# Altium integrated library TI Logic Buffer Line Driver.IntLib: 1037 symbols (part 12 of 25)
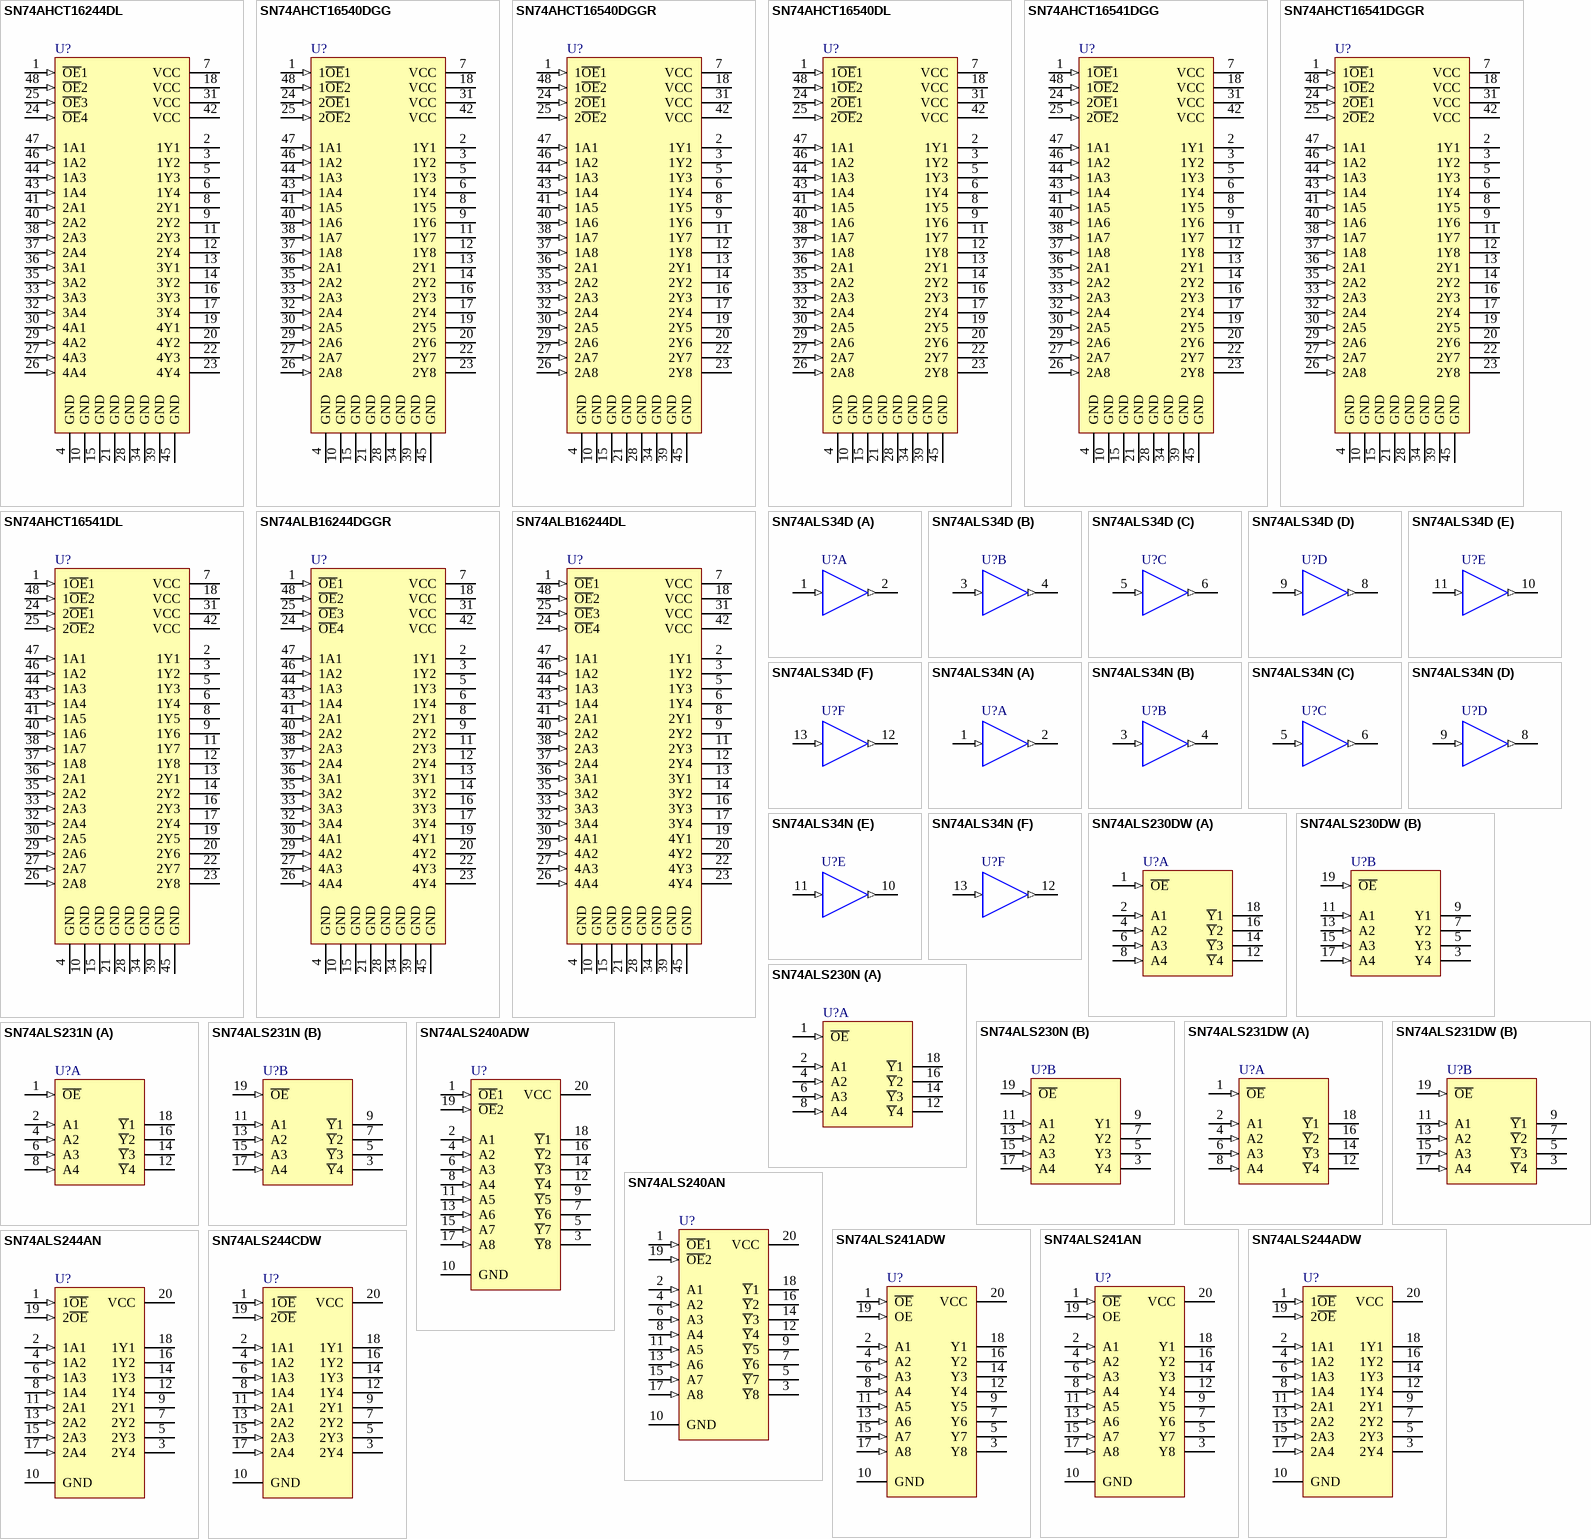
[diagram p56: symbols SN74AHCT16244DL to SN74ALS244CDW]

## SN74AHCT16541DGG
designator U?
16-Bit Buffer/Driver with 3-State Outputs; Published: 8-Jun-2000; LatestRevisionDate: 16-Oct-2006; LatestRevisionNote: IPC-7351 Footprint Added.; DatasheetVersion: Oct-1998; PackageVersion: Jan-1998; PackageReference: DGG048; Publisher: Altium Limited; PackageDescription: 48-Pin Thin Shrink Small Outline Package 0.5 mm Pitch; ComponentLink1Description: Manufacturer Link; ComponentLink1URL: http://www.ti.com/; ComponentLink2Description: Datasheet; ComponentLink2URL: http://www-s.ti.com/sc/ds/sn74ahct16541.pdf
footprint DGG048_N (TSSOP, 48-Leads, Body 12.5x6.1mm, Pitch 0.5mm, IPC Medium Density)
footprint DGG048_L (TSSOP, 48-Leads, Body 12.5x6.1mm, Pitch 0.5mm, IPC High Density)
footprint DGG048_M (TSSOP, 48-Leads, Body 12.5x6.1mm, Pitch 0.5mm, IPC Low Density)
3D model DGG048 (48-Pin Thin Shrink Small Outline Package 0.5 mm Pitch)
signal-integrity model SN74AHCT16541DGG
pins: 1 1~{OE}1 (in), 2 1Y1 (hiz), 3 1Y2 (hiz), 4 GND (power), 5 1Y3 (hiz), 6 1Y4 (hiz), 7 VCC (power), 8 1Y5 (hiz), 9 1Y6 (hiz), 10 GND (power), 11 1Y7 (hiz), 12 1Y8 (hiz), 13 2Y1 (hiz), 14 2Y2 (hiz), 15 GND (power), 16 2Y3 (hiz), 17 2Y4 (hiz), 18 VCC (power), 19 2Y5 (hiz), 20 2Y6 (hiz), 21 GND (power), 22 2Y7 (hiz), 23 2Y8 (hiz), 24 2~{OE}1 (in), 25 2~{OE}2 (in), 26 2A8 (in), 27 2A7 (in), 28 GND (power), 29 2A6 (in), 30 2A5 (in), 31 VCC (power), 32 2A4 (in), 33 2A3 (in), 34 GND (power), 35 2A2 (in), 36 2A1 (in), 37 1A8 (in), 38 1A7 (in), 39 GND (power), 40 1A6 (in), 41 1A5 (in), 42 VCC (power), 43 1A4 (in), 44 1A3 (in), 45 GND (power), 46 1A2 (in), 47 1A1 (in), 48 1~{OE}2 (in)

## SN74AHCT16541DGGR
designator U?
16-Bit Buffer/Driver with 3-State Outputs; Published: 8-Jun-2000; LatestRevisionDate: 16-Oct-2006; LatestRevisionNote: IPC-7351 Footprint Added.; DatasheetVersion: Oct-1998; PackageVersion: Jan-1998; PackageReference: DGG048; Publisher: Altium Limited; PackageDescription: 48-Pin Thin Shrink Small Outline Package 0.5 mm Pitch; ComponentLink1Description: Manufacturer Link; ComponentLink1URL: http://www.ti.com/; ComponentLink2Description: Datasheet; ComponentLink2URL: http://www-s.ti.com/sc/ds/sn74ahct16541.pdf
footprint DGG048_N (TSSOP, 48-Leads, Body 12.5x6.1mm, Pitch 0.5mm, IPC Medium Density)
footprint DGG048_L (TSSOP, 48-Leads, Body 12.5x6.1mm, Pitch 0.5mm, IPC High Density)
footprint DGG048_M (TSSOP, 48-Leads, Body 12.5x6.1mm, Pitch 0.5mm, IPC Low Density)
3D model DGG048 (48-Pin Thin Shrink Small Outline Package 0.5 mm Pitch)
signal-integrity model SN74AHCT16541DGGR
pins: 1 1~{OE}1 (in), 2 1Y1 (hiz), 3 1Y2 (hiz), 4 GND (power), 5 1Y3 (hiz), 6 1Y4 (hiz), 7 VCC (power), 8 1Y5 (hiz), 9 1Y6 (hiz), 10 GND (power), 11 1Y7 (hiz), 12 1Y8 (hiz), 13 2Y1 (hiz), 14 2Y2 (hiz), 15 GND (power), 16 2Y3 (hiz), 17 2Y4 (hiz), 18 VCC (power), 19 2Y5 (hiz), 20 2Y6 (hiz), 21 GND (power), 22 2Y7 (hiz), 23 2Y8 (hiz), 24 2~{OE}1 (in), 25 2~{OE}2 (in), 26 2A8 (in), 27 2A7 (in), 28 GND (power), 29 2A6 (in), 30 2A5 (in), 31 VCC (power), 32 2A4 (in), 33 2A3 (in), 34 GND (power), 35 2A2 (in), 36 2A1 (in), 37 1A8 (in), 38 1A7 (in), 39 GND (power), 40 1A6 (in), 41 1A5 (in), 42 VCC (power), 43 1A4 (in), 44 1A3 (in), 45 GND (power), 46 1A2 (in), 47 1A1 (in), 48 1~{OE}2 (in)

## SN74AHCT16541DL
designator U?
16-Bit Buffer/Driver with 3-State Outputs; Published: 8-Jun-2000; LatestRevisionDate: 16-Oct-2006; LatestRevisionNote: IPC-7351 Footprint Added.; DatasheetVersion: Oct-1998; PackageVersion: Dec-2001; PackageReference: DL048; Publisher: Altium Limited; PackageDescription: 48-Pin Small Outline Package 0.635 mm Pitch; Code_JEDEC: MO-118-AA; Code_IPC: SOP635P1035-48; ComponentLink1Description: Manufacturer Link; ComponentLink1URL: http://www.ti.com/; ComponentLink2Description: Datasheet; ComponentLink2URL: http://www-s.ti.com/sc/ds/sn74ahct16541.pdf
footprint DL048_N (SOP, 48-Leads, Body 15.9x7.5mm, Pitch 0.635mm, IPC Medium Density)
footprint DL048_L (SOP, 48-Leads, Body 15.9x7.5mm, Pitch 0.635mm, IPC High Density)
footprint DL048_M (SOP, 48-Leads, Body 15.9x7.5mm, Pitch 0.635mm, IPC Low Density)
3D model DL048 (48-Pin Small Outline Package 0.635 mm Pitch)
signal-integrity model SN74AHCT16541DL
pins: 1 1~{OE}1 (in), 2 1Y1 (hiz), 3 1Y2 (hiz), 4 GND (power), 5 1Y3 (hiz), 6 1Y4 (hiz), 7 VCC (power), 8 1Y5 (hiz), 9 1Y6 (hiz), 10 GND (power), 11 1Y7 (hiz), 12 1Y8 (hiz), 13 2Y1 (hiz), 14 2Y2 (hiz), 15 GND (power), 16 2Y3 (hiz), 17 2Y4 (hiz), 18 VCC (power), 19 2Y5 (hiz), 20 2Y6 (hiz), 21 GND (power), 22 2Y7 (hiz), 23 2Y8 (hiz), 24 2~{OE}1 (in), 25 2~{OE}2 (in), 26 2A8 (in), 27 2A7 (in), 28 GND (power), 29 2A6 (in), 30 2A5 (in), 31 VCC (power), 32 2A4 (in), 33 2A3 (in), 34 GND (power), 35 2A2 (in), 36 2A1 (in), 37 1A8 (in), 38 1A7 (in), 39 GND (power), 40 1A6 (in), 41 1A5 (in), 42 VCC (power), 43 1A4 (in), 44 1A3 (in), 45 GND (power), 46 1A2 (in), 47 1A1 (in), 48 1~{OE}2 (in)

## SN74ALB16244DGGR
designator U?
16-Bit Buffer/Driver with 3-State Outputs; Published: 8-Jun-2000; LatestRevisionDate: 16-Oct-2006; LatestRevisionNote: IPC-7351 Footprint Added.; DatasheetVersion: Jul-1997; PackageVersion: Jan-1998; PackageReference: DGG048; Publisher: Altium Limited; PackageDescription: 48-Pin Thin Shrink Small Outline Package 0.5 mm Pitch; ComponentLink1Description: Manufacturer Link; ComponentLink1URL: http://www.ti.com/; ComponentLink2Description: Datasheet; ComponentLink2URL: http://www-s.ti.com/sc/ds/sn74alb16244.pdf
footprint DGG048_N (TSSOP, 48-Leads, Body 12.5x6.1mm, Pitch 0.5mm, IPC Medium Density)
footprint DGG048_L (TSSOP, 48-Leads, Body 12.5x6.1mm, Pitch 0.5mm, IPC High Density)
footprint DGG048_M (TSSOP, 48-Leads, Body 12.5x6.1mm, Pitch 0.5mm, IPC Low Density)
3D model DGG048 (48-Pin Thin Shrink Small Outline Package 0.5 mm Pitch)
pins: 1 ~{OE}1 (in), 2 1Y1 (hiz), 3 1Y2 (hiz), 4 GND (power), 5 1Y3 (hiz), 6 1Y4 (hiz), 7 VCC (power), 8 2Y1 (hiz), 9 2Y2 (hiz), 10 GND (power), 11 2Y3 (hiz), 12 2Y4 (hiz), 13 3Y1 (hiz), 14 3Y2 (hiz), 15 GND (power), 16 3Y3 (hiz), 17 3Y4 (hiz), 18 VCC (power), 19 4Y1 (hiz), 20 4Y2 (hiz), 21 GND (power), 22 4Y3 (hiz), 23 4Y4 (hiz), 24 ~{OE}4 (in), 25 ~{OE}3 (in), 26 4A4 (in), 27 4A3 (in), 28 GND (power), 29 4A2 (in), 30 4A1 (in), 31 VCC (power), 32 3A4 (in), 33 3A3 (in), 34 GND (power), 35 3A2 (in), 36 3A1 (in), 37 2A4 (in), 38 2A3 (in), 39 GND (power), 40 2A2 (in), 41 2A1 (in), 42 VCC (power), 43 1A4 (in), 44 1A3 (in), 45 GND (power), 46 1A2 (in), 47 1A1 (in), 48 ~{OE}2 (in)

## SN74ALB16244DL
designator U?
16-Bit Buffer/Driver with 3-State Outputs; Published: 8-Jun-2000; LatestRevisionDate: 16-Oct-2006; LatestRevisionNote: IPC-7351 Footprint Added.; DatasheetVersion: Jul-1997; PackageVersion: Dec-2001; PackageReference: DL048; Publisher: Altium Limited; PackageDescription: 48-Pin Small Outline Package 0.635 mm Pitch; Code_JEDEC: MO-118-AA; Code_IPC: SOP635P1035-48; ComponentLink1Description: Manufacturer Link; ComponentLink1URL: http://www.ti.com/; ComponentLink2Description: Datasheet; ComponentLink2URL: http://www-s.ti.com/sc/ds/sn74alb16244.pdf
footprint DL048_N (SOP, 48-Leads, Body 15.9x7.5mm, Pitch 0.635mm, IPC Medium Density)
footprint DL048_L (SOP, 48-Leads, Body 15.9x7.5mm, Pitch 0.635mm, IPC High Density)
footprint DL048_M (SOP, 48-Leads, Body 15.9x7.5mm, Pitch 0.635mm, IPC Low Density)
3D model DL048 (48-Pin Small Outline Package 0.635 mm Pitch)
pins: 1 ~{OE}1 (in), 2 1Y1 (hiz), 3 1Y2 (hiz), 4 GND (power), 5 1Y3 (hiz), 6 1Y4 (hiz), 7 VCC (power), 8 2Y1 (hiz), 9 2Y2 (hiz), 10 GND (power), 11 2Y3 (hiz), 12 2Y4 (hiz), 13 3Y1 (hiz), 14 3Y2 (hiz), 15 GND (power), 16 3Y3 (hiz), 17 3Y4 (hiz), 18 VCC (power), 19 4Y1 (hiz), 20 4Y2 (hiz), 21 GND (power), 22 4Y3 (hiz), 23 4Y4 (hiz), 24 ~{OE}4 (in), 25 ~{OE}3 (in), 26 4A4 (in), 27 4A3 (in), 28 GND (power), 29 4A2 (in), 30 4A1 (in), 31 VCC (power), 32 3A4 (in), 33 3A3 (in), 34 GND (power), 35 3A2 (in), 36 3A1 (in), 37 2A4 (in), 38 2A3 (in), 39 GND (power), 40 2A2 (in), 41 2A1 (in), 42 VCC (power), 43 1A4 (in), 44 1A3 (in), 45 GND (power), 46 1A2 (in), 47 1A1 (in), 48 ~{OE}2 (in)

## SN74ALS34D
designator U?
Hex Non-Inverter; ComponentAvailability: Obsolete; Published: 8-Jun-2000; LatestRevisionDate: 13-Apr-2006; LatestRevisionNote: IPC-7351 Footprint Added.; DatasheetVersion: May-1986; PackageVersion: Jan-1998; PackageReference: D014; Publisher: Altium Limited; PackageDescription: 14-Pin Small Outline Integrated Circuit 1.27 mm Pitch; Code_IPC: SOIC127P600-14; ComponentLink1Description: Manufacturer Link; ComponentLink1URL: http://www.ti.com/; ComponentLink2Description: Datasheet; ComponentLink2URL: http://www-s.ti.com/sc/ds/sn74als34.pdf; ComponentLink3Description: Discontinuation Notice; ComponentLink3URL: http://focus.ti.com/docs/prod/folders/print/sn74als34.html
footprint D014_N (SOIC, 14-Leads, Body 8.7x3.9mm, Pitch 1.27mm, IPC Medium Density)
footprint D014_L (SOIC, 14-Leads, Body 8.7x3.9mm, Pitch 1.27mm, IPC High Density)
footprint D014_M (SOIC, 14-Leads, Body 8.7x3.9mm, Pitch 1.27mm, IPC Low Density)
3D model D014 (14-Pin Small Outline Integrated Circuit 1.27 mm Pitch)
signal-integrity model SN74ALS34D
pins on every part: 7 GND (power) hidden to GND, 14 VCC (power) hidden to VCC
part A pins: 1 A (in), 2 Y (out)
part B pins: 3 A (in), 4 Y (out)
part C pins: 5 A (in), 6 Y (out)
part D pins: 8 Y (out), 9 A (in)
part E pins: 10 Y (out), 11 A (in)
part F pins: 12 Y (out), 13 A (in)

## SN74ALS34N
designator U?
Hex Non-Inverter; ComponentAvailability: Obsolete; Published: 8-Jun-2000; LatestRevisionDate: 06-Jun-2005; LatestRevisionNote: Stylized 3D Model Added.; DatasheetVersion: May-1986; PackageVersion: Oct-1995; PackageReference: N014; Publisher: Altium Limited; PackageDescription: DIP; 14 Leads; Row Spacing 7.62 mm; Pitch 2.54 mm; ComponentLink1Description: Manufacturer Link; ComponentLink1URL: http://www.ti.com/; ComponentLink2Description: Datasheet; ComponentLink2URL: http://www-s.ti.com/sc/ds/sn74als34.pdf; ComponentLink3Description: Discontinuation Notice; ComponentLink3URL: http://focus.ti.com/docs/prod/folders/print/sn74als34.html
footprint N014 (DIP; 14 Leads; Row Spacing 7.62 mm; Pitch 2.54 mm)
3D model N014 (DIP; 14 Leads; Row Spacing 7.62 mm; Pitch 2.54 mm)
signal-integrity model SN74ALS34N
pins on every part: 7 GND (power) hidden to GND, 14 VCC (power) hidden to VCC
part A pins: 1 A (in), 2 Y (out)
part B pins: 3 A (in), 4 Y (out)
part C pins: 5 A (in), 6 Y (out)
part D pins: 8 Y (out), 9 A (in)
part E pins: 10 Y (out), 11 A (in)
part F pins: 12 Y (out), 13 A (in)

## SN74ALS230DW
designator U?
Octal Buffer/Driver with 3-State Outputs; Published: 8-Jun-2000; LatestRevisionDate: 13-Apr-2006; LatestRevisionNote: IPC-7351 Footprint Added.; DatasheetVersion: May-1986; PackageVersion: Mar-2000; PackageReference: DW020; Publisher: Altium Limited; PackageDescription: 20-Pin Plastic Small Outline Integrated Circuit 1.27 mm Pitch; Code_JEDEC: MS-013; Code_IPC: SOIC127P1030-20; ComponentLink1Description: Manufacturer Link; ComponentLink1URL: http://www.ti.com/
footprint DW020_N (SOIC, 20-Leads, Body 12.8x7.5mm, Pitch 1.27mm, IPC Medium Density)
footprint DW020_L (SOIC, 20-Leads, Body 12.8x7.5mm, Pitch 1.27mm, IPC High Density)
footprint DW020_M (SOIC, 20-Leads, Body 12.8x7.5mm, Pitch 1.27mm, IPC Low Density)
3D model DW020 (20-Pin Plastic Small Outline Integrated Circuit 1.27 mm Pitch)
signal-integrity model SN74ALS230DW
pins on every part: 10 GND (power) hidden to GND, 20 VCC (power) hidden to VCC
part A pins: 1 ~{OE} (in), 2 A1 (in), 4 A2 (in), 6 A3 (in), 8 A4 (in), 12 ~{Y}4 (hiz), 14 ~{Y}3 (hiz), 16 ~{Y}2 (hiz), 18 ~{Y}1 (hiz)
part B pins: 3 Y4 (hiz), 5 Y3 (hiz), 7 Y2 (hiz), 9 Y1 (hiz), 11 A1 (in), 13 A2 (in), 15 A3 (in), 17 A4 (in), 19 ~{OE} (in)

## SN74ALS230N
designator U?
Octal Buffer/Driver with 3-State Outputs; Published: 8-Jun-2000; LatestRevisionDate: 06-Jun-2005; LatestRevisionNote: Stylized 3D Model Added.; DatasheetVersion: May-1986; PackageVersion: Oct-1995; PackageReference: N020D; Publisher: Altium Limited; PackageDescription: DIP; 20 Leads; Row Spacing 7.62 mm; Pitch 2.54 mm; ComponentLink1Description: Manufacturer Link; ComponentLink1URL: http://www.ti.com/
footprint N020D (DIP; 20 Leads; Row Spacing 7.62 mm; Pitch 2.54 mm)
3D model J020 (DIP; 20 Leads; Row Spacing 7.62 mm; Pitch 2.54 mm)
signal-integrity model SN74ALS230N
pins on every part: 10 GND (power) hidden to GND, 20 VCC (power) hidden to VCC
part A pins: 1 ~{OE} (in), 2 A1 (in), 4 A2 (in), 6 A3 (in), 8 A4 (in), 12 ~{Y}4 (hiz), 14 ~{Y}3 (hiz), 16 ~{Y}2 (hiz), 18 ~{Y}1 (hiz)
part B pins: 3 Y4 (hiz), 5 Y3 (hiz), 7 Y2 (hiz), 9 Y1 (hiz), 11 A1 (in), 13 A2 (in), 15 A3 (in), 17 A4 (in), 19 ~{OE} (in)

## SN74ALS231DW
designator U?
Octal Buffer/Driver with 3-State Outputs; Published: 8-Jun-2000; LatestRevisionDate: 13-Apr-2006; LatestRevisionNote: IPC-7351 Footprint Added.; DatasheetVersion: May-1986; PackageVersion: Mar-2000; PackageReference: DW020; Publisher: Altium Limited; PackageDescription: 20-Pin Plastic Small Outline Integrated Circuit 1.27 mm Pitch; Code_JEDEC: MS-013; Code_IPC: SOIC127P1030-20; ComponentLink1Description: Manufacturer Link; ComponentLink1URL: http://www.ti.com/
footprint DW020_N (SOIC, 20-Leads, Body 12.8x7.5mm, Pitch 1.27mm, IPC Medium Density)
footprint DW020_L (SOIC, 20-Leads, Body 12.8x7.5mm, Pitch 1.27mm, IPC High Density)
footprint DW020_M (SOIC, 20-Leads, Body 12.8x7.5mm, Pitch 1.27mm, IPC Low Density)
3D model DW020 (20-Pin Plastic Small Outline Integrated Circuit 1.27 mm Pitch)
signal-integrity model SN74ALS231DW
pins on every part: 10 GND (power) hidden to GND, 20 VCC (power) hidden to VCC
part A pins: 1 ~{OE} (in), 2 A1 (in), 4 A2 (in), 6 A3 (in), 8 A4 (in), 12 ~{Y}4 (hiz), 14 ~{Y}3 (hiz), 16 ~{Y}2 (hiz), 18 ~{Y}1 (hiz)
part B pins: 3 ~{Y}4 (hiz), 5 ~{Y}3 (hiz), 7 ~{Y}2 (hiz), 9 ~{Y}1 (hiz), 11 A1 (in), 13 A2 (in), 15 A3 (in), 17 A4 (in), 19 ~{OE} (in)

## SN74ALS231N
designator U?
Octal Buffer/Driver with 3-State Outputs; Published: 8-Jun-2000; LatestRevisionDate: 06-Jun-2005; LatestRevisionNote: Stylized 3D Model Added.; DatasheetVersion: May-1986; PackageVersion: Oct-1995; PackageReference: N020D; Publisher: Altium Limited; PackageDescription: DIP; 20 Leads; Row Spacing 7.62 mm; Pitch 2.54 mm; ComponentLink1Description: Manufacturer Link; ComponentLink1URL: http://www.ti.com/
footprint N020D (DIP; 20 Leads; Row Spacing 7.62 mm; Pitch 2.54 mm)
3D model J020 (DIP; 20 Leads; Row Spacing 7.62 mm; Pitch 2.54 mm)
signal-integrity model SN74ALS231N
pins on every part: 10 GND (power) hidden to GND, 20 VCC (power) hidden to VCC
part A pins: 1 ~{OE} (in), 2 A1 (in), 4 A2 (in), 6 A3 (in), 8 A4 (in), 12 ~{Y}4 (hiz), 14 ~{Y}3 (hiz), 16 ~{Y}2 (hiz), 18 ~{Y}1 (hiz)
part B pins: 3 ~{Y}4 (hiz), 5 ~{Y}3 (hiz), 7 ~{Y}2 (hiz), 9 ~{Y}1 (hiz), 11 A1 (in), 13 A2 (in), 15 A3 (in), 17 A4 (in), 19 ~{OE} (in)

## SN74ALS240ADW
designator U?
Octal Buffer/Driver with 3-State Outputs; Published: 8-Jun-2000; LatestRevisionDate: 13-Apr-2006; LatestRevisionNote: IPC-7351 Footprint Added.; DatasheetVersion: Aug-1995; PackageVersion: Mar-2000; PackageReference: DW020; Publisher: Altium Limited; PackageDescription: 20-Pin Plastic Small Outline Integrated Circuit 1.27 mm Pitch; Code_JEDEC: MS-013; Code_IPC: SOIC127P1030-20; ComponentLink1Description: Manufacturer Link; ComponentLink1URL: http://www.ti.com/; ComponentLink2Description: Datasheet; ComponentLink2URL: http://www-s.ti.com/sc/ds/sn74als240a.pdf
footprint DW020_N (SOIC, 20-Leads, Body 12.8x7.5mm, Pitch 1.27mm, IPC Medium Density)
footprint DW020_L (SOIC, 20-Leads, Body 12.8x7.5mm, Pitch 1.27mm, IPC High Density)
footprint DW020_M (SOIC, 20-Leads, Body 12.8x7.5mm, Pitch 1.27mm, IPC Low Density)
3D model DW020 (20-Pin Plastic Small Outline Integrated Circuit 1.27 mm Pitch)
signal-integrity model SN74ALS240ADW
pins: 1 ~{OE}1 (in), 2 A1 (in), 3 ~{Y}8 (hiz), 4 A2 (in), 5 ~{Y}7 (hiz), 6 A3 (in), 7 ~{Y}6 (hiz), 8 A4 (in), 9 ~{Y}5 (hiz), 10 GND (power), 11 A5 (in), 12 ~{Y}4 (hiz), 13 A6 (in), 14 ~{Y}3 (hiz), 15 A7 (in), 16 ~{Y}2 (hiz), 17 A8 (in), 18 ~{Y}1 (hiz), 19 ~{OE}2 (in), 20 VCC (power)

## SN74ALS240AN
designator U?
Octal Buffer/Driver with 3-State Outputs; Published: 8-Jun-2000; LatestRevisionDate: 06-Jun-2005; LatestRevisionNote: Stylized 3D Model Added.; DatasheetVersion: Aug-1995; PackageVersion: Oct-1995; PackageReference: N020; Publisher: Altium Limited; PackageDescription: DIP; 20 Leads; Row Spacing 7.62 mm; Pitch 2.54 mm; ComponentLink1Description: Manufacturer Link; ComponentLink1URL: http://www.ti.com/; ComponentLink2Description: Datasheet; ComponentLink2URL: http://www-s.ti.com/sc/ds/sn74als240a.pdf
footprint N020 (DIP; 20 Leads; Row Spacing 7.62 mm; Pitch 2.54 mm)
3D model J020 (DIP; 20 Leads; Row Spacing 7.62 mm; Pitch 2.54 mm)
signal-integrity model SN74ALS240AN
pins: 1 ~{OE}1 (in), 2 A1 (in), 3 ~{Y}8 (hiz), 4 A2 (in), 5 ~{Y}7 (hiz), 6 A3 (in), 7 ~{Y}6 (hiz), 8 A4 (in), 9 ~{Y}5 (hiz), 10 GND (power), 11 A5 (in), 12 ~{Y}4 (hiz), 13 A6 (in), 14 ~{Y}3 (hiz), 15 A7 (in), 16 ~{Y}2 (hiz), 17 A8 (in), 18 ~{Y}1 (hiz), 19 ~{OE}2 (in), 20 VCC (power)

## SN74ALS241ADW
designator U?
Octal Buffer and Line Driver with 3-State Outputs; Published: 8-Jun-2000; LatestRevisionDate: 13-Apr-2006; LatestRevisionNote: IPC-7351 Footprint Added.; DatasheetVersion: May-1986; PackageVersion: Mar-2000; PackageReference: DW020; Publisher: Altium Limited; PackageDescription: 20-Pin Plastic Small Outline Integrated Circuit 1.27 mm Pitch; Code_JEDEC: MS-013; Code_IPC: SOIC127P1030-20; ComponentLink1Description: Manufacturer Link; ComponentLink1URL: http://www.ti.com/
footprint DW020_N (SOIC, 20-Leads, Body 12.8x7.5mm, Pitch 1.27mm, IPC Medium Density)
footprint DW020_L (SOIC, 20-Leads, Body 12.8x7.5mm, Pitch 1.27mm, IPC High Density)
footprint DW020_M (SOIC, 20-Leads, Body 12.8x7.5mm, Pitch 1.27mm, IPC Low Density)
3D model DW020 (20-Pin Plastic Small Outline Integrated Circuit 1.27 mm Pitch)
signal-integrity model SN74ALS241ADW
pins: 1 ~{OE} (in), 2 A1 (in), 3 Y8 (hiz), 4 A2 (in), 5 Y7 (hiz), 6 A3 (in), 7 Y6 (hiz), 8 A4 (in), 9 Y5 (hiz), 10 GND (power), 11 A5 (in), 12 Y4 (hiz), 13 A6 (in), 14 Y3 (hiz), 15 A7 (in), 16 Y2 (hiz), 17 A8 (in), 18 Y1 (hiz), 19 OE (in), 20 VCC (power)

## SN74ALS241AN
designator U?
Octal Buffer and Line Driver with 3-State Outputs; Published: 8-Jun-2000; LatestRevisionDate: 06-Jun-2005; LatestRevisionNote: Stylized 3D Model Added.; DatasheetVersion: May-1986; PackageVersion: Oct-1995; PackageReference: N020D; Publisher: Altium Limited; PackageDescription: DIP; 20 Leads; Row Spacing 7.62 mm; Pitch 2.54 mm; ComponentLink1Description: Manufacturer Link; ComponentLink1URL: http://www.ti.com/
footprint N020D (DIP; 20 Leads; Row Spacing 7.62 mm; Pitch 2.54 mm)
3D model J020 (DIP; 20 Leads; Row Spacing 7.62 mm; Pitch 2.54 mm)
signal-integrity model SN74ALS241AN
pins: 1 ~{OE} (in), 2 A1 (in), 3 Y8 (hiz), 4 A2 (in), 5 Y7 (hiz), 6 A3 (in), 7 Y6 (hiz), 8 A4 (in), 9 Y5 (hiz), 10 GND (power), 11 A5 (in), 12 Y4 (hiz), 13 A6 (in), 14 Y3 (hiz), 15 A7 (in), 16 Y2 (hiz), 17 A8 (in), 18 Y1 (hiz), 19 OE (in), 20 VCC (power)

## SN74ALS244ADW
designator U?
Octal Buffer and Line Driver with 3-State Outputs; ComponentAvailability: Obsolete; Published: 8-Jun-2000; LatestRevisionDate: 16-Oct-2006; LatestRevisionNote: Pin Names fixed.; DatasheetVersion: May-1986; PackageVersion: Mar-2000; PackageReference: DW020; Publisher: Altium Limited; PackageDescription: 20-Pin Plastic Small Outline Integrated Circuit 1.27 mm Pitch; Code_JEDEC: MS-013; Code_IPC: SOIC127P1030-20; ComponentLink1Description: Manufacturer Link; ComponentLink1URL: http://www.ti.com/
footprint DW020_N (SOIC, 20-Leads, Body 12.8x7.5mm, Pitch 1.27mm, IPC Medium Density)
footprint DW020_L (SOIC, 20-Leads, Body 12.8x7.5mm, Pitch 1.27mm, IPC High Density)
footprint DW020_M (SOIC, 20-Leads, Body 12.8x7.5mm, Pitch 1.27mm, IPC Low Density)
3D model DW020 (20-Pin Plastic Small Outline Integrated Circuit 1.27 mm Pitch)
signal-integrity model SN74ALS244ADW
pins: 1 1~{OE} (in), 2 1A1 (in), 3 2Y4 (hiz), 4 1A2 (in), 5 2Y3 (hiz), 6 1A3 (in), 7 2Y2 (hiz), 8 1A4 (in), 9 2Y1 (hiz), 10 GND (power), 11 2A1 (in), 12 1Y4 (hiz), 13 2A2 (in), 14 1Y3 (hiz), 15 2A3 (in), 16 1Y2 (hiz), 17 2A4 (in), 18 1Y1 (hiz), 19 2~{OE} (in), 20 VCC (power)

## SN74ALS244AN
designator U?
Octal Buffer and Line Driver with 3-State Outputs; ComponentAvailability: Obsolete; Published: 8-Jun-2000; LatestRevisionDate: 16-Oct-2006; LatestRevisionNote: Pin Names fixed.; DatasheetVersion: May-1986; PackageVersion: Oct-1995; PackageReference: N020D; Publisher: Altium Limited; PackageDescription: DIP; 20 Leads; Row Spacing 7.62 mm; Pitch 2.54 mm; ComponentLink1Description: Manufacturer Link; ComponentLink1URL: http://www.ti.com/
footprint N020D (DIP; 20 Leads; Row Spacing 7.62 mm; Pitch 2.54 mm)
3D model J020 (DIP; 20 Leads; Row Spacing 7.62 mm; Pitch 2.54 mm)
signal-integrity model SN74ALS244AN
pins: 1 1~{OE} (in), 2 1A1 (in), 3 2Y4 (hiz), 4 1A2 (in), 5 2Y3 (hiz), 6 1A3 (in), 7 2Y2 (hiz), 8 1A4 (in), 9 2Y1 (hiz), 10 GND (power), 11 2A1 (in), 12 1Y4 (hiz), 13 2A2 (in), 14 1Y3 (hiz), 15 2A3 (in), 16 1Y2 (hiz), 17 2A4 (in), 18 1Y1 (hiz), 19 2~{OE} (in), 20 VCC (power)

## SN74ALS244CDW
designator U?
Octal Buffer/Driver with 3-State Outputs; Published: 8-Jun-2000; LatestRevisionDate: 16-Oct-2006; LatestRevisionNote: Pin Names fixed.; DatasheetVersion: Aug-1995; PackageVersion: Mar-2000; PackageReference: DW020; Publisher: Altium Limited; PackageDescription: 20-Pin Plastic Small Outline Integrated Circuit 1.27 mm Pitch; Code_JEDEC: MS-013; Code_IPC: SOIC127P1030-20; ComponentLink1Description: Manufacturer Link; ComponentLink1URL: http://www.ti.com/; ComponentLink2Description: Datasheet; ComponentLink2URL: http://www-s.ti.com/sc/ds/sn74als244c.pdf
footprint DW020_N (SOIC, 20-Leads, Body 12.8x7.5mm, Pitch 1.27mm, IPC Medium Density)
footprint DW020_L (SOIC, 20-Leads, Body 12.8x7.5mm, Pitch 1.27mm, IPC High Density)
footprint DW020_M (SOIC, 20-Leads, Body 12.8x7.5mm, Pitch 1.27mm, IPC Low Density)
3D model DW020 (20-Pin Plastic Small Outline Integrated Circuit 1.27 mm Pitch)
signal-integrity model SN74ALS244CDW
pins: 1 1~{OE} (in), 2 1A1 (in), 3 2Y4 (hiz), 4 1A2 (in), 5 2Y3 (hiz), 6 1A3 (in), 7 2Y2 (hiz), 8 1A4 (in), 9 2Y1 (hiz), 10 GND (power), 11 2A1 (in), 12 1Y4 (hiz), 13 2A2 (in), 14 1Y3 (hiz), 15 2A3 (in), 16 1Y2 (hiz), 17 2A4 (in), 18 1Y1 (hiz), 19 2~{OE} (in), 20 VCC (power)

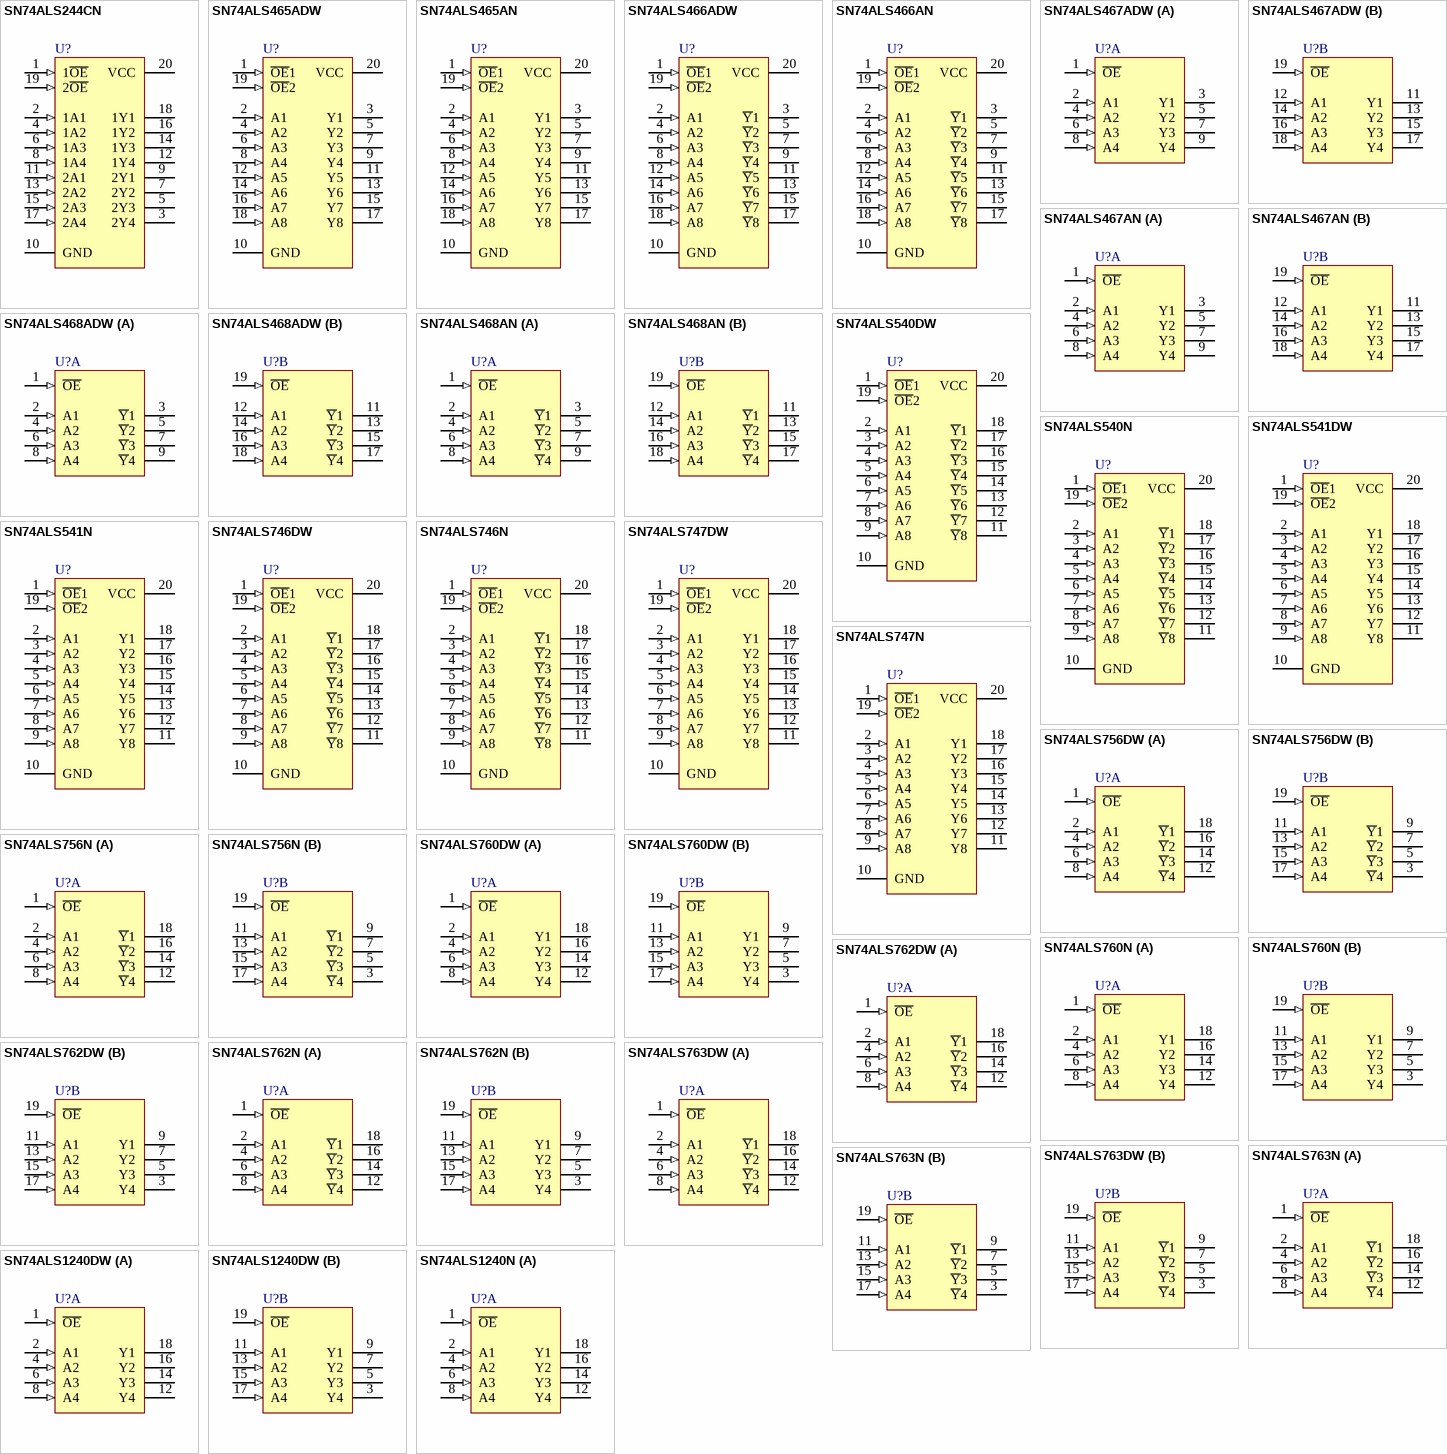
[diagram p22: symbols SN74ALS244CN to SN74ALS1240N]

## SN74ALS244CN
designator U?
Octal Buffer/Driver with 3-State Outputs; Published: 8-Jun-2000; LatestRevisionDate: 16-Oct-2006; LatestRevisionNote: Pin Names fixed.; DatasheetVersion: Aug-1995; PackageVersion: Oct-1995; PackageReference: N020; Publisher: Altium Limited; PackageDescription: DIP; 20 Leads; Row Spacing 7.62 mm; Pitch 2.54 mm; ComponentLink1Description: Manufacturer Link; ComponentLink1URL: http://www.ti.com/; ComponentLink2Description: Datasheet; ComponentLink2URL: http://www-s.ti.com/sc/ds/sn74als244c.pdf
footprint N020 (DIP; 20 Leads; Row Spacing 7.62 mm; Pitch 2.54 mm)
3D model J020 (DIP; 20 Leads; Row Spacing 7.62 mm; Pitch 2.54 mm)
signal-integrity model SN74ALS244CN
pins: 1 1~{OE} (in), 2 1A1 (in), 3 2Y4 (hiz), 4 1A2 (in), 5 2Y3 (hiz), 6 1A3 (in), 7 2Y2 (hiz), 8 1A4 (in), 9 2Y1 (hiz), 10 GND (power), 11 2A1 (in), 12 1Y4 (hiz), 13 2A2 (in), 14 1Y3 (hiz), 15 2A3 (in), 16 1Y2 (hiz), 17 2A4 (in), 18 1Y1 (hiz), 19 2~{OE} (in), 20 VCC (power)

## SN74ALS465ADW
designator U?
Octal Buffer with 3-State Outputs; ComponentAvailability: Obsolete; Published: 8-Jun-2000; LatestRevisionDate: 13-Apr-2006; LatestRevisionNote: IPC-7351 Footprint Added.; DatasheetVersion: May-1986; PackageVersion: Mar-2000; PackageReference: DW020; Publisher: Altium Limited; PackageDescription: 20-Pin Plastic Small Outline Integrated Circuit 1.27 mm Pitch; Code_JEDEC: MS-013; Code_IPC: SOIC127P1030-20; ComponentLink1Description: Manufacturer Link; ComponentLink1URL: http://www.ti.com/; ComponentLink2Description: Datasheet; ComponentLink2URL: http://www-s.ti.com/sc/ds/sn74als465a.pdf; ComponentLink3Description: Discontinuation Notice; ComponentLink3URL: http://focus.ti.com/docs/prod/folders/print/sn74als465a.html
footprint DW020_N (SOIC, 20-Leads, Body 12.8x7.5mm, Pitch 1.27mm, IPC Medium Density)
footprint DW020_L (SOIC, 20-Leads, Body 12.8x7.5mm, Pitch 1.27mm, IPC High Density)
footprint DW020_M (SOIC, 20-Leads, Body 12.8x7.5mm, Pitch 1.27mm, IPC Low Density)
3D model DW020 (20-Pin Plastic Small Outline Integrated Circuit 1.27 mm Pitch)
signal-integrity model SN74ALS465ADW
pins: 1 ~{OE}1 (in), 2 A1 (in), 3 Y1 (hiz), 4 A2 (in), 5 Y2 (hiz), 6 A3 (in), 7 Y3 (hiz), 8 A4 (in), 9 Y4 (hiz), 10 GND (power), 11 Y5 (hiz), 12 A5 (in), 13 Y6 (hiz), 14 A6 (in), 15 Y7 (hiz), 16 A7 (in), 17 Y8 (hiz), 18 A8 (in), 19 ~{OE}2 (in), 20 VCC (power)

## SN74ALS465AN
designator U?
Octal Buffer with 3-State Outputs; ComponentAvailability: Obsolete; Published: 8-Jun-2000; LatestRevisionDate: 06-Jun-2005; LatestRevisionNote: Stylized 3D Model Added.; DatasheetVersion: May-1986; PackageVersion: Oct-1995; PackageReference: N020; Publisher: Altium Limited; PackageDescription: DIP; 20 Leads; Row Spacing 7.62 mm; Pitch 2.54 mm; ComponentLink1Description: Manufacturer Link; ComponentLink1URL: http://www.ti.com/; ComponentLink2Description: Datasheet; ComponentLink2URL: http://www-s.ti.com/sc/ds/sn74als465a.pdf; ComponentLink3Description: Discontinuation Notice; ComponentLink3URL: http://focus.ti.com/docs/prod/folders/print/sn74als465a.html
footprint N020 (DIP; 20 Leads; Row Spacing 7.62 mm; Pitch 2.54 mm)
3D model J020 (DIP; 20 Leads; Row Spacing 7.62 mm; Pitch 2.54 mm)
signal-integrity model SN74ALS465AN
pins: 1 ~{OE}1 (in), 2 A1 (in), 3 Y1 (hiz), 4 A2 (in), 5 Y2 (hiz), 6 A3 (in), 7 Y3 (hiz), 8 A4 (in), 9 Y4 (hiz), 10 GND (power), 11 Y5 (hiz), 12 A5 (in), 13 Y6 (hiz), 14 A6 (in), 15 Y7 (hiz), 16 A7 (in), 17 Y8 (hiz), 18 A8 (in), 19 ~{OE}2 (in), 20 VCC (power)

## SN74ALS466ADW
designator U?
Octal Buffer with 3-State Outputs; Published: 8-Jun-2000; LatestRevisionDate: 13-Apr-2006; LatestRevisionNote: IPC-7351 Footprint Added.; DatasheetVersion: May-1986; PackageVersion: Mar-2000; PackageReference: DW020; Publisher: Altium Limited; PackageDescription: 20-Pin Plastic Small Outline Integrated Circuit 1.27 mm Pitch; Code_JEDEC: MS-013; Code_IPC: SOIC127P1030-20; ComponentLink1Description: Manufacturer Link; ComponentLink1URL: http://www.ti.com/; ComponentLink2Description: Datasheet; ComponentLink2URL: http://www-s.ti.com/sc/ds/sn74als465a.pdf; ComponentLink3Description: Packaging Specification; ComponentLink3URL: web
footprint DW020_N (SOIC, 20-Leads, Body 12.8x7.5mm, Pitch 1.27mm, IPC Medium Density)
footprint DW020_L (SOIC, 20-Leads, Body 12.8x7.5mm, Pitch 1.27mm, IPC High Density)
footprint DW020_M (SOIC, 20-Leads, Body 12.8x7.5mm, Pitch 1.27mm, IPC Low Density)
3D model DW020 (20-Pin Plastic Small Outline Integrated Circuit 1.27 mm Pitch)
signal-integrity model SN74ALS466ADW
pins: 1 ~{OE}1 (in), 2 A1 (in), 3 ~{Y}1 (hiz), 4 A2 (in), 5 ~{Y}2 (hiz), 6 A3 (in), 7 ~{Y}3 (hiz), 8 A4 (in), 9 ~{Y}4 (hiz), 10 GND (power), 11 ~{Y}5 (hiz), 12 A5 (in), 13 ~{Y}6 (hiz), 14 A6 (in), 15 ~{Y}7 (hiz), 16 A7 (in), 17 ~{Y}8 (hiz), 18 A8 (in), 19 ~{OE}2 (in), 20 VCC (power)

## SN74ALS466AN
designator U?
Octal Buffer with 3-State Outputs; Published: 8-Jun-2000; LatestRevisionDate: 06-Jun-2005; LatestRevisionNote: Stylized 3D Model Added.; DatasheetVersion: May-1986; PackageVersion: Oct-1995; PackageReference: N020; Publisher: Altium Limited; PackageDescription: DIP; 20 Leads; Row Spacing 7.62 mm; Pitch 2.54 mm; ComponentLink1Description: Manufacturer Link; ComponentLink1URL: http://www.ti.com/; ComponentLink2Description: Datasheet; ComponentLink2URL: http://www-s.ti.com/sc/ds/sn74als465a.pdf
footprint N020 (DIP; 20 Leads; Row Spacing 7.62 mm; Pitch 2.54 mm)
3D model J020 (DIP; 20 Leads; Row Spacing 7.62 mm; Pitch 2.54 mm)
signal-integrity model SN74ALS466AN
pins: 1 ~{OE}1 (in), 2 A1 (in), 3 ~{Y}1 (hiz), 4 A2 (in), 5 ~{Y}2 (hiz), 6 A3 (in), 7 ~{Y}3 (hiz), 8 A4 (in), 9 ~{Y}4 (hiz), 10 GND (power), 11 ~{Y}5 (hiz), 12 A5 (in), 13 ~{Y}6 (hiz), 14 A6 (in), 15 ~{Y}7 (hiz), 16 A7 (in), 17 ~{Y}8 (hiz), 18 A8 (in), 19 ~{OE}2 (in), 20 VCC (power)

## SN74ALS467ADW
designator U?
Octal Buffer with 3-State Outputs; Published: 8-Jun-2000; LatestRevisionDate: 13-Apr-2006; LatestRevisionNote: IPC-7351 Footprint Added.; DatasheetVersion: May-1986; PackageVersion: Mar-2000; PackageReference: DW020; Publisher: Altium Limited; PackageDescription: 20-Pin Plastic Small Outline Integrated Circuit 1.27 mm Pitch; Code_JEDEC: MS-013; Code_IPC: SOIC127P1030-20; ComponentLink1Description: Manufacturer Link; ComponentLink1URL: http://www.ti.com/
footprint DW020_N (SOIC, 20-Leads, Body 12.8x7.5mm, Pitch 1.27mm, IPC Medium Density)
footprint DW020_L (SOIC, 20-Leads, Body 12.8x7.5mm, Pitch 1.27mm, IPC High Density)
footprint DW020_M (SOIC, 20-Leads, Body 12.8x7.5mm, Pitch 1.27mm, IPC Low Density)
3D model DW020 (20-Pin Plastic Small Outline Integrated Circuit 1.27 mm Pitch)
signal-integrity model SN74ALS467ADW
pins on every part: 10 GND (power) hidden to GND, 20 VCC (power) hidden to VCC
part A pins: 1 ~{OE} (in), 2 A1 (in), 3 Y1 (hiz), 4 A2 (in), 5 Y2 (hiz), 6 A3 (in), 7 Y3 (hiz), 8 A4 (in), 9 Y4 (hiz)
part B pins: 11 Y1 (hiz), 12 A1 (in), 13 Y2 (hiz), 14 A2 (in), 15 Y3 (hiz), 16 A3 (in), 17 Y4 (hiz), 18 A4 (in), 19 ~{OE} (in)

## SN74ALS467AN
designator U?
Octal Buffer with 3-State Outputs; Published: 8-Jun-2000; LatestRevisionDate: 06-Jun-2005; LatestRevisionNote: Stylized 3D Model Added.; DatasheetVersion: May-1986; PackageVersion: Oct-1995; PackageReference: N020D; Publisher: Altium Limited; PackageDescription: DIP; 20 Leads; Row Spacing 7.62 mm; Pitch 2.54 mm; ComponentLink1Description: Manufacturer Link; ComponentLink1URL: http://www.ti.com/
footprint N020D (DIP; 20 Leads; Row Spacing 7.62 mm; Pitch 2.54 mm)
3D model J020 (DIP; 20 Leads; Row Spacing 7.62 mm; Pitch 2.54 mm)
signal-integrity model SN74ALS467AN
pins on every part: 10 GND (power) hidden to GND, 20 VCC (power) hidden to VCC
part A pins: 1 ~{OE} (in), 2 A1 (in), 3 Y1 (hiz), 4 A2 (in), 5 Y2 (hiz), 6 A3 (in), 7 Y3 (hiz), 8 A4 (in), 9 Y4 (hiz)
part B pins: 11 Y1 (hiz), 12 A1 (in), 13 Y2 (hiz), 14 A2 (in), 15 Y3 (hiz), 16 A3 (in), 17 Y4 (hiz), 18 A4 (in), 19 ~{OE} (in)

## SN74ALS468ADW
designator U?
Octal Buffer with 3-State Outputs; ComponentAvailability: Obsolete; Published: 8-Jun-2000; LatestRevisionDate: 13-Apr-2006; LatestRevisionNote: IPC-7351 Footprint Added.; DatasheetVersion: May-1986; PackageVersion: Mar-2000; PackageReference: DW020; Publisher: Altium Limited; PackageDescription: 20-Pin Plastic Small Outline Integrated Circuit 1.27 mm Pitch; Code_JEDEC: MS-013; Code_IPC: SOIC127P1030-20; ComponentLink1Description: Manufacturer Link; ComponentLink1URL: http://www.ti.com/; ComponentLink2Description: Datasheet; ComponentLink2URL: http://www-s.ti.com/sc/ds/sn74als468a.pdf; ComponentLink3Description: Discontinuation Notice; ComponentLink3URL: http://focus.ti.com/docs/prod/folders/print/sn74als468a.html
footprint DW020_N (SOIC, 20-Leads, Body 12.8x7.5mm, Pitch 1.27mm, IPC Medium Density)
footprint DW020_L (SOIC, 20-Leads, Body 12.8x7.5mm, Pitch 1.27mm, IPC High Density)
footprint DW020_M (SOIC, 20-Leads, Body 12.8x7.5mm, Pitch 1.27mm, IPC Low Density)
3D model DW020 (20-Pin Plastic Small Outline Integrated Circuit 1.27 mm Pitch)
signal-integrity model SN74ALS468ADW
pins on every part: 10 GND (power) hidden to GND, 20 VCC (power) hidden to VCC
part A pins: 1 ~{OE} (in), 2 A1 (in), 3 ~{Y}1 (hiz), 4 A2 (in), 5 ~{Y}2 (hiz), 6 A3 (in), 7 ~{Y}3 (hiz), 8 A4 (in), 9 ~{Y}4 (hiz)
part B pins: 11 ~{Y}1 (hiz), 12 A1 (in), 13 ~{Y}2 (hiz), 14 A2 (in), 15 ~{Y}3 (hiz), 16 A3 (in), 17 ~{Y}4 (hiz), 18 A4 (in), 19 ~{OE} (in)

## SN74ALS468AN
designator U?
Octal Buffer with 3-State Outputs; ComponentAvailability: Obsolete; Published: 8-Jun-2000; LatestRevisionDate: 06-Jun-2005; LatestRevisionNote: Stylized 3D Model Added.; DatasheetVersion: May-1986; PackageVersion: Oct-1995; PackageReference: N020D; Publisher: Altium Limited; PackageDescription: DIP; 20 Leads; Row Spacing 7.62 mm; Pitch 2.54 mm; ComponentLink1Description: Manufacturer Link; ComponentLink1URL: http://www.ti.com/; ComponentLink2Description: Datasheet; ComponentLink2URL: http://www-s.ti.com/sc/ds/sn74als468a.pdf; ComponentLink3Description: Discontinuation Notice; ComponentLink3URL: http://focus.ti.com/docs/prod/folders/print/sn74als468a.html
footprint N020D (DIP; 20 Leads; Row Spacing 7.62 mm; Pitch 2.54 mm)
3D model J020 (DIP; 20 Leads; Row Spacing 7.62 mm; Pitch 2.54 mm)
signal-integrity model SN74ALS468AN
pins on every part: 10 GND (power) hidden to GND, 20 VCC (power) hidden to VCC
part A pins: 1 ~{OE} (in), 2 A1 (in), 3 ~{Y}1 (hiz), 4 A2 (in), 5 ~{Y}2 (hiz), 6 A3 (in), 7 ~{Y}3 (hiz), 8 A4 (in), 9 ~{Y}4 (hiz)
part B pins: 11 ~{Y}1 (hiz), 12 A1 (in), 13 ~{Y}2 (hiz), 14 A2 (in), 15 ~{Y}3 (hiz), 16 A3 (in), 17 ~{Y}4 (hiz), 18 A4 (in), 19 ~{OE} (in)

## SN74ALS540DW
designator U?
Octal Buffer/Driver with 3-State Outputs; Published: 8-Jun-2000; LatestRevisionDate: 13-Apr-2006; LatestRevisionNote: IPC-7351 Footprint Added.; DatasheetVersion: Jan-1995; PackageVersion: Mar-2000; PackageReference: DW020; Publisher: Altium Limited; PackageDescription: 20-Pin Plastic Small Outline Integrated Circuit 1.27 mm Pitch; Code_JEDEC: MS-013; Code_IPC: SOIC127P1030-20; ComponentLink1Description: Manufacturer Link; ComponentLink1URL: http://www.ti.com/; ComponentLink2Description: Datasheet; ComponentLink2URL: http://www-s.ti.com/sc/ds/sn74als540.pdf
footprint DW020_N (SOIC, 20-Leads, Body 12.8x7.5mm, Pitch 1.27mm, IPC Medium Density)
footprint DW020_L (SOIC, 20-Leads, Body 12.8x7.5mm, Pitch 1.27mm, IPC High Density)
footprint DW020_M (SOIC, 20-Leads, Body 12.8x7.5mm, Pitch 1.27mm, IPC Low Density)
3D model DW020 (20-Pin Plastic Small Outline Integrated Circuit 1.27 mm Pitch)
signal-integrity model SN74ALS540DW
pins: 1 ~{OE}1 (in), 2 A1 (in), 3 A2 (in), 4 A3 (in), 5 A4 (in), 6 A5 (in), 7 A6 (in), 8 A7 (in), 9 A8 (in), 10 GND (power), 11 ~{Y}8 (hiz), 12 ~{Y}7 (hiz), 13 ~{Y}6 (hiz), 14 ~{Y}5 (hiz), 15 ~{Y}4 (hiz), 16 ~{Y}3 (hiz), 17 ~{Y}2 (hiz), 18 ~{Y}1 (hiz), 19 ~{OE}2 (in), 20 VCC (power)

## SN74ALS540N
designator U?
Octal Buffer/Driver with 3-State Outputs; Published: 8-Jun-2000; LatestRevisionDate: 06-Jun-2005; LatestRevisionNote: Stylized 3D Model Added.; DatasheetVersion: Jan-1995; PackageVersion: Oct-1995; PackageReference: N020; Publisher: Altium Limited; PackageDescription: DIP; 20 Leads; Row Spacing 7.62 mm; Pitch 2.54 mm; ComponentLink1Description: Manufacturer Link; ComponentLink1URL: http://www.ti.com/; ComponentLink2Description: Datasheet; ComponentLink2URL: http://www-s.ti.com/sc/ds/sn74als540.pdf
footprint N020 (DIP; 20 Leads; Row Spacing 7.62 mm; Pitch 2.54 mm)
3D model J020 (DIP; 20 Leads; Row Spacing 7.62 mm; Pitch 2.54 mm)
signal-integrity model SN74ALS540N
pins: 1 ~{OE}1 (in), 2 A1 (in), 3 A2 (in), 4 A3 (in), 5 A4 (in), 6 A5 (in), 7 A6 (in), 8 A7 (in), 9 A8 (in), 10 GND (power), 11 ~{Y}8 (hiz), 12 ~{Y}7 (hiz), 13 ~{Y}6 (hiz), 14 ~{Y}5 (hiz), 15 ~{Y}4 (hiz), 16 ~{Y}3 (hiz), 17 ~{Y}2 (hiz), 18 ~{Y}1 (hiz), 19 ~{OE}2 (in), 20 VCC (power)

## SN74ALS541DW
designator U?
Octal Buffer/Driver with 3-State Outputs; Published: 8-Jun-2000; LatestRevisionDate: 13-Apr-2006; LatestRevisionNote: IPC-7351 Footprint Added.; DatasheetVersion: Jan-1995; PackageVersion: Mar-2000; PackageReference: DW020; Publisher: Altium Limited; PackageDescription: 20-Pin Plastic Small Outline Integrated Circuit 1.27 mm Pitch; Code_JEDEC: MS-013; Code_IPC: SOIC127P1030-20; ComponentLink1Description: Manufacturer Link; ComponentLink1URL: http://www.ti.com/; ComponentLink2Description: Datasheet; ComponentLink2URL: http://www-s.ti.com/sc/ds/sn74als540.pdf
footprint DW020_N (SOIC, 20-Leads, Body 12.8x7.5mm, Pitch 1.27mm, IPC Medium Density)
footprint DW020_L (SOIC, 20-Leads, Body 12.8x7.5mm, Pitch 1.27mm, IPC High Density)
footprint DW020_M (SOIC, 20-Leads, Body 12.8x7.5mm, Pitch 1.27mm, IPC Low Density)
3D model DW020 (20-Pin Plastic Small Outline Integrated Circuit 1.27 mm Pitch)
signal-integrity model SN74ALS541DW
pins: 1 ~{OE}1 (in), 2 A1 (in), 3 A2 (in), 4 A3 (in), 5 A4 (in), 6 A5 (in), 7 A6 (in), 8 A7 (in), 9 A8 (in), 10 GND (power), 11 Y8 (hiz), 12 Y7 (hiz), 13 Y6 (hiz), 14 Y5 (hiz), 15 Y4 (hiz), 16 Y3 (hiz), 17 Y2 (hiz), 18 Y1 (hiz), 19 ~{OE}2 (in), 20 VCC (power)

## SN74ALS541N
designator U?
Octal Buffer/Driver with 3-State Outputs; Published: 8-Jun-2000; LatestRevisionDate: 06-Jun-2005; LatestRevisionNote: Stylized 3D Model Added.; DatasheetVersion: Jan-1995; PackageVersion: Oct-1995; PackageReference: N020; Publisher: Altium Limited; PackageDescription: DIP; 20 Leads; Row Spacing 7.62 mm; Pitch 2.54 mm; ComponentLink1Description: Manufacturer Link; ComponentLink1URL: http://www.ti.com/; ComponentLink2Description: Datasheet; ComponentLink2URL: http://www-s.ti.com/sc/ds/sn74als540.pdf
footprint N020 (DIP; 20 Leads; Row Spacing 7.62 mm; Pitch 2.54 mm)
3D model J020 (DIP; 20 Leads; Row Spacing 7.62 mm; Pitch 2.54 mm)
signal-integrity model SN74ALS541N
pins: 1 ~{OE}1 (in), 2 A1 (in), 3 A2 (in), 4 A3 (in), 5 A4 (in), 6 A5 (in), 7 A6 (in), 8 A7 (in), 9 A8 (in), 10 GND (power), 11 Y8 (hiz), 12 Y7 (hiz), 13 Y6 (hiz), 14 Y5 (hiz), 15 Y4 (hiz), 16 Y3 (hiz), 17 Y2 (hiz), 18 Y1 (hiz), 19 ~{OE}2 (in), 20 VCC (power)

## SN74ALS746DW
designator U?
Octal Buffer and Line Driver with Input Pull-Up Resistors; ComponentAvailability: Obsolete; Published: 8-Jun-2000; LatestRevisionDate: 13-Apr-2006; LatestRevisionNote: IPC-7351 Footprint Added.; DatasheetVersion: Jan-1995; PackageVersion: Mar-2000; PackageReference: DW020; Publisher: Altium Limited; PackageDescription: 20-Pin Plastic Small Outline Integrated Circuit 1.27 mm Pitch; Code_JEDEC: MS-013; Code_IPC: SOIC127P1030-20; ComponentLink1Description: Manufacturer Link; ComponentLink1URL: http://www.ti.com/; ComponentLink2Description: Datasheet; ComponentLink2URL: http://www-s.ti.com/sc/ds/sn74als746.pdf
footprint DW020_N (SOIC, 20-Leads, Body 12.8x7.5mm, Pitch 1.27mm, IPC Medium Density)
footprint DW020_L (SOIC, 20-Leads, Body 12.8x7.5mm, Pitch 1.27mm, IPC High Density)
footprint DW020_M (SOIC, 20-Leads, Body 12.8x7.5mm, Pitch 1.27mm, IPC Low Density)
3D model DW020 (20-Pin Plastic Small Outline Integrated Circuit 1.27 mm Pitch)
signal-integrity model SN74ALS746DW
pins: 1 ~{OE}1 (in), 2 A1 (in), 3 A2 (in), 4 A3 (in), 5 A4 (in), 6 A5 (in), 7 A6 (in), 8 A7 (in), 9 A8 (in), 10 GND (power), 11 ~{Y}8 (hiz), 12 ~{Y}7 (hiz), 13 ~{Y}6 (hiz), 14 ~{Y}5 (hiz), 15 ~{Y}4 (hiz), 16 ~{Y}3 (hiz), 17 ~{Y}2 (hiz), 18 ~{Y}1 (hiz), 19 ~{OE}2 (in), 20 VCC (power)

## SN74ALS746N
designator U?
Octal Buffer and Line Driver with Input Pull-Up Resistors; ComponentAvailability: Obsolete; Published: 8-Jun-2000; LatestRevisionDate: 06-Jun-2005; LatestRevisionNote: Stylized 3D Model Added.; DatasheetVersion: Jan-1995; PackageVersion: Oct-1995; PackageReference: N020; Publisher: Altium Limited; PackageDescription: DIP; 20 Leads; Row Spacing 7.62 mm; Pitch 2.54 mm; ComponentLink1Description: Manufacturer Link; ComponentLink1URL: http://www.ti.com/; ComponentLink2Description: Datasheet; ComponentLink2URL: http://www-s.ti.com/sc/ds/sn74als746.pdf
footprint N020 (DIP; 20 Leads; Row Spacing 7.62 mm; Pitch 2.54 mm)
3D model J020 (DIP; 20 Leads; Row Spacing 7.62 mm; Pitch 2.54 mm)
signal-integrity model SN74ALS746N
pins: 1 ~{OE}1 (in), 2 A1 (in), 3 A2 (in), 4 A3 (in), 5 A4 (in), 6 A5 (in), 7 A6 (in), 8 A7 (in), 9 A8 (in), 10 GND (power), 11 ~{Y}8 (hiz), 12 ~{Y}7 (hiz), 13 ~{Y}6 (hiz), 14 ~{Y}5 (hiz), 15 ~{Y}4 (hiz), 16 ~{Y}3 (hiz), 17 ~{Y}2 (hiz), 18 ~{Y}1 (hiz), 19 ~{OE}2 (in), 20 VCC (power)

## SN74ALS747DW
designator U?
Octal Buffer/Line Driver with Input Pull-Up Resistors; Published: 8-Jun-2000; LatestRevisionDate: 13-Apr-2006; LatestRevisionNote: IPC-7351 Footprint Added.; DatasheetVersion: May-1986; PackageVersion: Mar-2000; PackageReference: DW020; Publisher: Altium Limited; PackageDescription: 20-Pin Plastic Small Outline Integrated Circuit 1.27 mm Pitch; Code_JEDEC: MS-013; Code_IPC: SOIC127P1030-20; ComponentLink1Description: Manufacturer Link; ComponentLink1URL: http://www.ti.com/
footprint DW020_N (SOIC, 20-Leads, Body 12.8x7.5mm, Pitch 1.27mm, IPC Medium Density)
footprint DW020_L (SOIC, 20-Leads, Body 12.8x7.5mm, Pitch 1.27mm, IPC High Density)
footprint DW020_M (SOIC, 20-Leads, Body 12.8x7.5mm, Pitch 1.27mm, IPC Low Density)
3D model DW020 (20-Pin Plastic Small Outline Integrated Circuit 1.27 mm Pitch)
signal-integrity model SN74ALS747DW
pins: 1 ~{OE}1 (in), 2 A1 (in), 3 A2 (in), 4 A3 (in), 5 A4 (in), 6 A5 (in), 7 A6 (in), 8 A7 (in), 9 A8 (in), 10 GND (power), 11 Y8 (hiz), 12 Y7 (hiz), 13 Y6 (hiz), 14 Y5 (hiz), 15 Y4 (hiz), 16 Y3 (hiz), 17 Y2 (hiz), 18 Y1 (hiz), 19 ~{OE}2 (in), 20 VCC (power)

## SN74ALS747N
designator U?
Octal Buffer/Line Driver with Input Pull-Up Resistors; Published: 8-Jun-2000; LatestRevisionDate: 06-Jun-2005; LatestRevisionNote: Stylized 3D Model Added.; DatasheetVersion: May-1986; PackageVersion: Oct-1995; PackageReference: N020D; Publisher: Altium Limited; PackageDescription: DIP; 20 Leads; Row Spacing 7.62 mm; Pitch 2.54 mm; ComponentLink1Description: Manufacturer Link; ComponentLink1URL: http://www.ti.com/
footprint N020D (DIP; 20 Leads; Row Spacing 7.62 mm; Pitch 2.54 mm)
3D model J020 (DIP; 20 Leads; Row Spacing 7.62 mm; Pitch 2.54 mm)
signal-integrity model SN74ALS747N
pins: 1 ~{OE}1 (in), 2 A1 (in), 3 A2 (in), 4 A3 (in), 5 A4 (in), 6 A5 (in), 7 A6 (in), 8 A7 (in), 9 A8 (in), 10 GND (power), 11 Y8 (hiz), 12 Y7 (hiz), 13 Y6 (hiz), 14 Y5 (hiz), 15 Y4 (hiz), 16 Y3 (hiz), 17 Y2 (hiz), 18 Y1 (hiz), 19 ~{OE}2 (in), 20 VCC (power)

## SN74ALS756DW
designator U?
Octal Buffer and Line Driver with Open-Collector Outputs; Published: 8-Jun-2000; LatestRevisionDate: 13-Apr-2006; LatestRevisionNote: IPC-7351 Footprint Added.; DatasheetVersion: May-1986; PackageVersion: Mar-2000; PackageReference: DW020; Publisher: Altium Limited; PackageDescription: 20-Pin Plastic Small Outline Integrated Circuit 1.27 mm Pitch; Code_JEDEC: MS-013; Code_IPC: SOIC127P1030-20; ComponentLink1Description: Manufacturer Link; ComponentLink1URL: http://www.ti.com/
footprint DW020_N (SOIC, 20-Leads, Body 12.8x7.5mm, Pitch 1.27mm, IPC Medium Density)
footprint DW020_L (SOIC, 20-Leads, Body 12.8x7.5mm, Pitch 1.27mm, IPC High Density)
footprint DW020_M (SOIC, 20-Leads, Body 12.8x7.5mm, Pitch 1.27mm, IPC Low Density)
3D model DW020 (20-Pin Plastic Small Outline Integrated Circuit 1.27 mm Pitch)
signal-integrity model SN74ALS756DW
pins on every part: 10 GND (power) hidden to GND, 20 VCC (power) hidden to VCC
part A pins: 1 ~{OE} (in), 2 A1 (in), 4 A2 (in), 6 A3 (in), 8 A4 (in), 12 ~{Y}4 (hiz), 14 ~{Y}3 (hiz), 16 ~{Y}2 (hiz), 18 ~{Y}1 (hiz)
part B pins: 3 ~{Y}4 (hiz), 5 ~{Y}3 (hiz), 7 ~{Y}2 (hiz), 9 ~{Y}1 (hiz), 11 A1 (in), 13 A2 (in), 15 A3 (in), 17 A4 (in), 19 ~{OE} (in)

## SN74ALS756N
designator U?
Octal Buffer and Line Driver with Open-Collector Outputs; Published: 8-Jun-2000; LatestRevisionDate: 06-Jun-2005; LatestRevisionNote: Stylized 3D Model Added.; DatasheetVersion: May-1986; PackageVersion: Oct-1995; PackageReference: N020D; Publisher: Altium Limited; PackageDescription: DIP; 20 Leads; Row Spacing 7.62 mm; Pitch 2.54 mm; ComponentLink1Description: Manufacturer Link; ComponentLink1URL: http://www.ti.com/
footprint N020D (DIP; 20 Leads; Row Spacing 7.62 mm; Pitch 2.54 mm)
3D model J020 (DIP; 20 Leads; Row Spacing 7.62 mm; Pitch 2.54 mm)
signal-integrity model SN74ALS756N
pins on every part: 10 GND (power) hidden to GND, 20 VCC (power) hidden to VCC
part A pins: 1 ~{OE} (in), 2 A1 (in), 4 A2 (in), 6 A3 (in), 8 A4 (in), 12 ~{Y}4 (hiz), 14 ~{Y}3 (hiz), 16 ~{Y}2 (hiz), 18 ~{Y}1 (hiz)
part B pins: 3 ~{Y}4 (hiz), 5 ~{Y}3 (hiz), 7 ~{Y}2 (hiz), 9 ~{Y}1 (hiz), 11 A1 (in), 13 A2 (in), 15 A3 (in), 17 A4 (in), 19 ~{OE} (in)

## SN74ALS760DW
designator U?
Octal Buffer and Line Driver with Open-Collector Outputs; Published: 8-Jun-2000; LatestRevisionDate: 13-Apr-2006; LatestRevisionNote: IPC-7351 Footprint Added.; DatasheetVersion: Jan-1995; PackageVersion: Mar-2000; PackageReference: DW020; Publisher: Altium Limited; PackageDescription: 20-Pin Plastic Small Outline Integrated Circuit 1.27 mm Pitch; Code_JEDEC: MS-013; Code_IPC: SOIC127P1030-20; ComponentLink1Description: Manufacturer Link; ComponentLink1URL: http://www.ti.com/; ComponentLink2Description: Datasheet; ComponentLink2URL: http://www-s.ti.com/sc/ds/sn74als760.pdf
footprint DW020_N (SOIC, 20-Leads, Body 12.8x7.5mm, Pitch 1.27mm, IPC Medium Density)
footprint DW020_L (SOIC, 20-Leads, Body 12.8x7.5mm, Pitch 1.27mm, IPC High Density)
footprint DW020_M (SOIC, 20-Leads, Body 12.8x7.5mm, Pitch 1.27mm, IPC Low Density)
3D model DW020 (20-Pin Plastic Small Outline Integrated Circuit 1.27 mm Pitch)
signal-integrity model SN74ALS760DW
pins on every part: 10 GND (power) hidden to GND, 20 VCC (power) hidden to VCC
part A pins: 1 ~{OE} (in), 2 A1 (in), 4 A2 (in), 6 A3 (in), 8 A4 (in), 12 Y4 (hiz), 14 Y3 (hiz), 16 Y2 (hiz), 18 Y1 (hiz)
part B pins: 3 Y4 (hiz), 5 Y3 (hiz), 7 Y2 (hiz), 9 Y1 (hiz), 11 A1 (in), 13 A2 (in), 15 A3 (in), 17 A4 (in), 19 ~{OE} (in)

## SN74ALS760N
designator U?
Octal Buffer and Line Driver with Open-Collector Outputs; Published: 8-Jun-2000; LatestRevisionDate: 06-Jun-2005; LatestRevisionNote: Stylized 3D Model Added.; DatasheetVersion: Jan-1995; PackageVersion: Oct-1995; PackageReference: N020; Publisher: Altium Limited; PackageDescription: DIP; 20 Leads; Row Spacing 7.62 mm; Pitch 2.54 mm; ComponentLink1Description: Manufacturer Link; ComponentLink1URL: http://www.ti.com/; ComponentLink2Description: Datasheet; ComponentLink2URL: http://www-s.ti.com/sc/ds/sn74als760.pdf
footprint N020 (DIP; 20 Leads; Row Spacing 7.62 mm; Pitch 2.54 mm)
3D model J020 (DIP; 20 Leads; Row Spacing 7.62 mm; Pitch 2.54 mm)
signal-integrity model SN74ALS760N
pins on every part: 10 GND (power) hidden to GND, 20 VCC (power) hidden to VCC
part A pins: 1 ~{OE} (in), 2 A1 (in), 4 A2 (in), 6 A3 (in), 8 A4 (in), 12 Y4 (hiz), 14 Y3 (hiz), 16 Y2 (hiz), 18 Y1 (hiz)
part B pins: 3 Y4 (hiz), 5 Y3 (hiz), 7 Y2 (hiz), 9 Y1 (hiz), 11 A1 (in), 13 A2 (in), 15 A3 (in), 17 A4 (in), 19 ~{OE} (in)

## SN74ALS762DW
designator U?
Octal Buffer and Line Driver with Open-Collector Outputs; Published: 8-Jun-2000; LatestRevisionDate: 13-Apr-2006; LatestRevisionNote: IPC-7351 Footprint Added.; DatasheetVersion: May-1996; PackageVersion: Mar-2000; PackageReference: DW020; Publisher: Altium Limited; PackageDescription: 20-Pin Plastic Small Outline Integrated Circuit 1.27 mm Pitch; Code_JEDEC: MS-013; Code_IPC: SOIC127P1030-20; ComponentLink1Description: Manufacturer Link; ComponentLink1URL: http://www.ti.com/; ComponentLink2Description: Datasheet; ComponentLink2URL: http://www-s.ti.com/sc/ds/sn74as762.pdf
footprint DW020_N (SOIC, 20-Leads, Body 12.8x7.5mm, Pitch 1.27mm, IPC Medium Density)
footprint DW020_L (SOIC, 20-Leads, Body 12.8x7.5mm, Pitch 1.27mm, IPC High Density)
footprint DW020_M (SOIC, 20-Leads, Body 12.8x7.5mm, Pitch 1.27mm, IPC Low Density)
3D model DW020 (20-Pin Plastic Small Outline Integrated Circuit 1.27 mm Pitch)
signal-integrity model SN74ALS762DW
pins on every part: 10 GND (power) hidden to GND, 20 VCC (power) hidden to VCC
part A pins: 1 ~{OE} (in), 2 A1 (in), 4 A2 (in), 6 A3 (in), 8 A4 (in), 12 ~{Y}4 (hiz), 14 ~{Y}3 (hiz), 16 ~{Y}2 (hiz), 18 ~{Y}1 (hiz)
part B pins: 3 Y4 (hiz), 5 Y3 (hiz), 7 Y2 (hiz), 9 Y1 (hiz), 11 A1 (in), 13 A2 (in), 15 A3 (in), 17 A4 (in), 19 ~{OE} (in)

## SN74ALS762N
designator U?
Octal Buffer and Line Driver with Open-Collector Outputs; Published: 8-Jun-2000; LatestRevisionDate: 06-Jun-2005; LatestRevisionNote: Stylized 3D Model Added.; DatasheetVersion: May-1996; PackageVersion: Oct-1995; PackageReference: N020; Publisher: Altium Limited; PackageDescription: DIP; 20 Leads; Row Spacing 7.62 mm; Pitch 2.54 mm; ComponentLink1Description: Manufacturer Link; ComponentLink1URL: http://www.ti.com/; ComponentLink2Description: Datasheet; ComponentLink2URL: http://www-s.ti.com/sc/ds/sn74as762.pdf
footprint N020 (DIP; 20 Leads; Row Spacing 7.62 mm; Pitch 2.54 mm)
3D model J020 (DIP; 20 Leads; Row Spacing 7.62 mm; Pitch 2.54 mm)
signal-integrity model SN74ALS762N
pins on every part: 10 GND (power) hidden to GND, 20 VCC (power) hidden to VCC
part A pins: 1 ~{OE} (in), 2 A1 (in), 4 A2 (in), 6 A3 (in), 8 A4 (in), 12 ~{Y}4 (hiz), 14 ~{Y}3 (hiz), 16 ~{Y}2 (hiz), 18 ~{Y}1 (hiz)
part B pins: 3 Y4 (hiz), 5 Y3 (hiz), 7 Y2 (hiz), 9 Y1 (hiz), 11 A1 (in), 13 A2 (in), 15 A3 (in), 17 A4 (in), 19 ~{OE} (in)

## SN74ALS763DW
designator U?
Octal Buffer and Line Driver with Open-Collector Outputs; Published: 8-Jun-2000; LatestRevisionDate: 13-Apr-2006; LatestRevisionNote: IPC-7351 Footprint Added.; DatasheetVersion: May-1996; PackageVersion: Mar-2000; PackageReference: DW020; Publisher: Altium Limited; PackageDescription: 20-Pin Plastic Small Outline Integrated Circuit 1.27 mm Pitch; Code_JEDEC: MS-013; Code_IPC: SOIC127P1030-20; ComponentLink1Description: Manufacturer Link; ComponentLink1URL: http://www.ti.com/; ComponentLink2Description: Datasheet; ComponentLink2URL: http://www-s.ti.com/sc/ds/sn74as762.pdf
footprint DW020_N (SOIC, 20-Leads, Body 12.8x7.5mm, Pitch 1.27mm, IPC Medium Density)
footprint DW020_L (SOIC, 20-Leads, Body 12.8x7.5mm, Pitch 1.27mm, IPC High Density)
footprint DW020_M (SOIC, 20-Leads, Body 12.8x7.5mm, Pitch 1.27mm, IPC Low Density)
3D model DW020 (20-Pin Plastic Small Outline Integrated Circuit 1.27 mm Pitch)
signal-integrity model SN74ALS763DW
pins on every part: 10 GND (power) hidden to GND, 20 VCC (power) hidden to VCC
part A pins: 1 ~{OE} (in), 2 A1 (in), 4 A2 (in), 6 A3 (in), 8 A4 (in), 12 ~{Y}4 (hiz), 14 ~{Y}3 (hiz), 16 ~{Y}2 (hiz), 18 ~{Y}1 (hiz)
part B pins: 3 ~{Y}4 (hiz), 5 ~{Y}3 (hiz), 7 ~{Y}2 (hiz), 9 ~{Y}1 (hiz), 11 A1 (in), 13 A2 (in), 15 A3 (in), 17 A4 (in), 19 ~{OE} (in)